# EAGLE library part MOSFET-NCHANNEL-DUAL (library OSURC_DiscreteSemi)
Dual N-Channel 30-V (D-S) MOSFET FDMA1024NZ TRANS-09516 http://www.vishay.com/docs/71053/71053.pdf
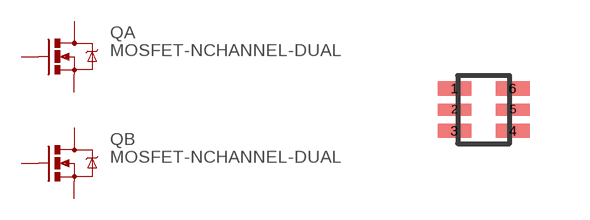
[diagram p0: symbol with the pads of SOT-666; footprint SOT-666]

Designator prefix Q; gates A=MOSFET-NCHANNEL-1 B=MOSFET-NCHANNEL-1

## MOSFET-NCHANNEL-DUALEM6K1 (DIGIKEY_PN: EM6K1T2RCT-ND; VALUE: EM6K1)  [SOT-666]
1  A:S  pas
2  A:G  pas
3  B:D  pas
4  B:S  pas
5  B:G  pas
6  A:D  pas

## Footprint SOT-666 (pad centres in mm)
smd 0.84 x 0.36: 1 -0.73,0.53; 3 -0.73,-0.53; 4 0.73,-0.53; 6 0.73,0.53
smd 0.84 x 0.3: 2 -0.73,0; 5 0.73,0